# Altium schematic symbol library LED SMD 0805.SchLib: 2 symbols
Pins are listed as number, name and electrical type; pins without a type are passive.

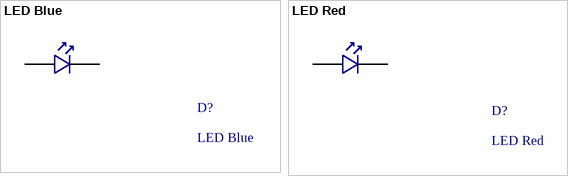
[diagram p0: symbols LED Blue to LED Red]

## LED Blue
designator D?
Blue 470nm LED Indication - Discrete 3.3V 0805 (2012 Metric); Manufacturer 1: Lite-On Inc.; Manufacturer 1 PN: LTST-C171TBKT
footprint LED Blue (Blue 470nm LED Indication - Discrete 3.3V 0805 (2012 Metric))
pins: A, K

## LED Red
designator D?
Red 631nm LED Indication - Discrete 2V 0805 (2012 Metric); Manufacturer 1: Lite-On Inc.; Manufacturer 1 PN: LTST-C171KRKT
footprint LED Red (Red 631nm LED Indication - Discrete 2V 0805 (2012 Metric))
pins: A, K